# Altium footprint library RHS_FEST22-EV_Footprints.PcbLib: 9 footprints
Each footprint in its own frame and in the unit in brackets; x right, y up, seen from the top. Pads: shape width x height; smd on the part's side, far side on the other; paste and mask are expansions set on the pad; w line width, h text height; cw(c..) or ccw(c..) is an arc to the next point about the centre after c.
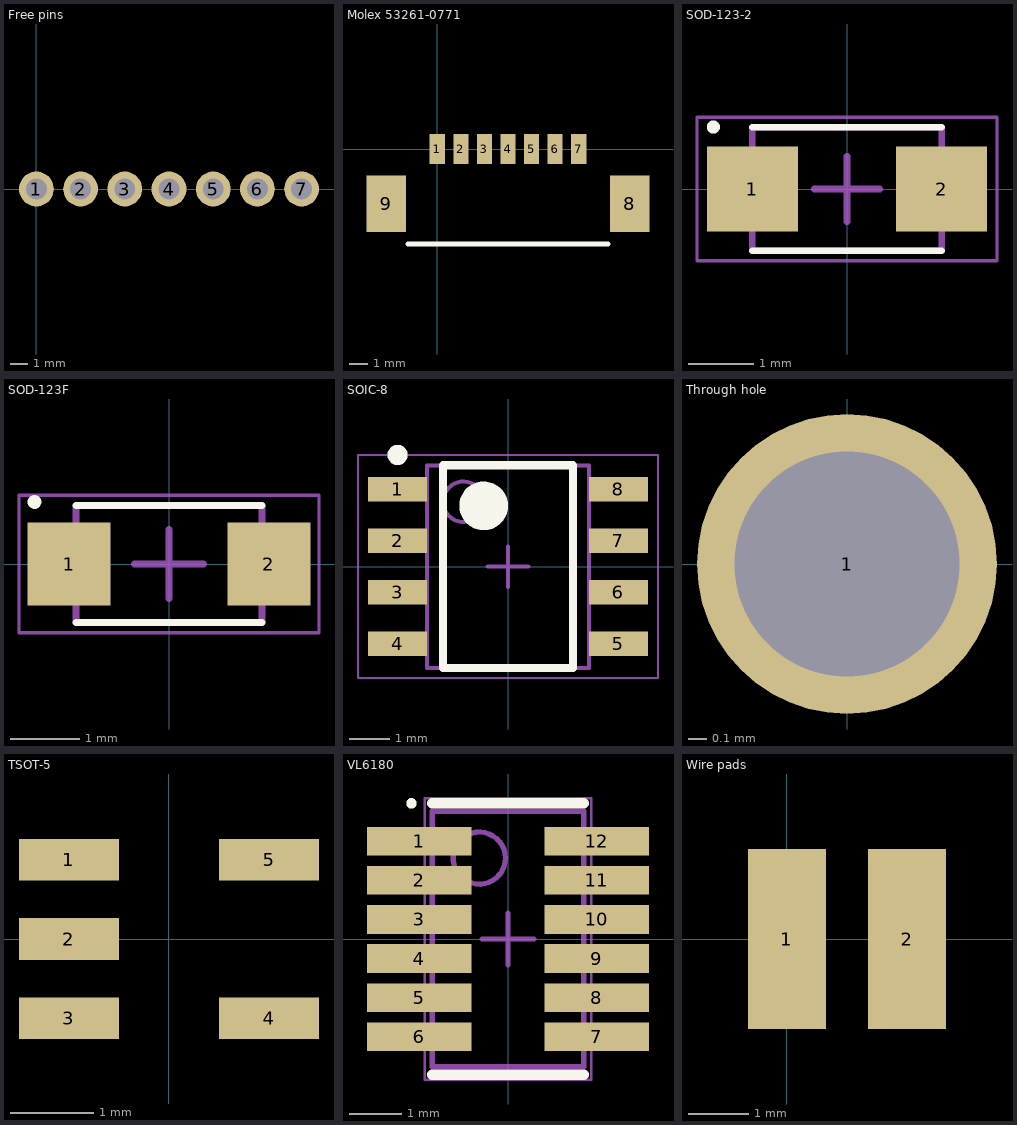
[diagram p0: the footprints below, top view; thin cyan lines are the x and y axes]

## Free pins [mm]
pads (7):
  round 2 hole 1.2: 1(0,0) 2(2.54,0) 3(5.08,0) 4(7.62,0) 5(10.16,0) 6(12.7,0) 7(15.24,0)

## Molex 53261-0771 [mm]
pads (9):
  rect 0.8x1.6 smd: 1(0,0) 2(1.25,0) 3(2.5,0) 4(3.75,0) 5(5,0) 6(6.25,0) 7(7.5,0)
  rect 2.1x3 smd: 8(10.2,-2.9) 9(-2.7,-2.9)
Top Overlay:
  lines w0.254: -1.55,-5.025 9.05,-5.025
3D body "532610771.stp": height 3.4, standoff 0, extent -3.2,-5.025 10.7,0.175

## SOD-123-2 [mm]
height 1.3
pads (2):
  rect 1.4x1.3 smd: 1(-1.45,0) 2(1.45,0)
Top Overlay:
  circle w0.1: c-2.05,0.95 r0.05
  lines w0.1: -1.45,-0.95 1.45,-0.95 ; -1.45,0.95 1.45,0.95
Mechanical 13:
  lines w0.1: -1.45,-0.95 1.45,-0.95 1.45,0.95 -1.45,0.95 -1.45,-0.95
Mechanical 15:
  lines w0.05: -2.3,-1.1 2.3,-1.1 2.3,1.1 -2.3,1.1 -2.3,-1.1
  lines w0.1: -0.5,0 0.5,0 ; 0,-0.5 0,0.5
3D body: height 1.3, standoff 0, extent -1.45,-0.95 1.45,0.95
3D body "TV02W.step": height 1.35, standoff 0, extent -1.93,-0.902 1.93,0.902

## SOD-123F [mm] "SODFL, 2-Leads, Body 1,60x3,50mm, IPC Medium Density"
height 1.2
pads (2):
  rect 1.2x1.2 smd: 1(-1.45,0) 2(1.45,0)
Top Overlay:
  circle w0.1: c-1.95,0.9 r0.05
  lines w0.1: -1.35,-0.85 1.35,-0.85 ; -1.35,0.85 1.35,0.85
Mechanical 13:
  lines w0.1: -1.35,-0.85 -1.35,0.85 1.35,0.85 1.35,-0.85 -1.35,-0.85
Mechanical 15:
  lines w0.05: -2.175,-1 -2.175,1 2.175,1 2.175,-1 -2.175,-1
  lines w0.1: -0.5,0 0.5,0 ; 0,-0.5 0,0.5
3D body "SOD123F_NEX.step": height 1.2, standoff 0, extent -1.803,-0.851 1.803,0.851

## SOIC-8 [mm] "SOIC, 8-Leads, Body 4,91x3,90mm, Pitch 1,27mm, IPC Medium Density"
height 1.75
pads (8):
  rect 1.45x0.6 smd: 1(-2.725,1.905) 2(-2.725,0.635) 3(-2.725,-0.635) 4(-2.725,-1.905) 5(2.725,-1.905) 6(2.725,-0.635) 7(2.725,0.635) 8(2.725,1.905)
Top Overlay:
  circle w0.6: c-0.6,1.5 r0.3
  circle w0.25: c-2.725,2.755 r0.125
  lines w0.2: -1.6,-2.5 1.6,-2.5 1.6,2.5 -1.6,2.5 -1.6,-2.5
Mechanical 13:
  circle w0.1: c-1.1,1.6 r0.5
  lines w0.1: -2,-2.5 2,-2.5 2,2.5 -2,2.5 -2,-2.5
Mechanical 15:
  lines w0.05: -3.7,-2.75 3.7,-2.75 3.7,2.75 -3.7,2.75 -3.7,-2.75
  lines w0.1: -0.5,0 0.5,0 ; 0,-0.5 0,0.5
3D body "D8_TEX.step": height 1.76, standoff 0, extent -3.099,-2.502 3.099,2.502

## Through hole [mm]
pads (1):
  round 1.6 hole 1.2: 1(0,0)

## TSOT-5 [mm] "SOT23, 5-Leads, Body 3,05x3,00mm, Pitch 0,95mm, IPC Medium Density"
height 1.45
pads (5):
  rect 1.2x0.5 smd: 1(-1.2,0.95) 2(-1.2,0) 3(-1.2,-0.95) 4(1.2,-0.95) 5(1.2,0.95)
3D body "UJ_5_ADI.step": height 0.99, standoff 0, extent -1.397,-1.448 1.397,1.448

## VL6180 [mm] "PSON, 12-Leads, Body 4,80x2,80mm, Pitch 0,75mm, IPC Medium Density"
height 1.1
pads (12):
  rect 2x0.55 smd: 1(-1.7,1.875) 2(-1.7,1.125) 3(-1.7,0.375) 4(-1.7,-0.375) 5(-1.7,-1.125) 6(-1.7,-1.875) 7(1.7,-1.875) 8(1.7,-1.125) 9(1.7,-0.375) 10(1.7,0.375) 11(1.7,1.125) 12(1.7,1.875)
Top Overlay:
  circle w0.1: c-1.85,2.6 r0.05
  lines w0.2: -1.45,-2.6 1.45,-2.6 ; -1.45,2.6 1.45,2.6
Mechanical 13:
  circle w0.1: c-0.55,1.55 r0.5
  lines w0.1: -1.45,-2.45 1.45,-2.45 1.45,2.45 -1.45,2.45 -1.45,-2.45
Mechanical 15:
  lines w0.05: -1.595,-2.7 1.595,-2.7 1.595,2.7 -1.595,2.7 -1.595,-2.7
  lines w0.1: -0.5,0 0.5,0 ; 0,-0.5 0,0.5
3D body "VL6180X_STM.step": height 1.09, standoff 0, extent -1.448,-2.451 1.448,2.451

## Wire pads [mm]
pads (2):
  rect 1.3x3 smd: 1(0,0) 2(2,0)